# EAGLE library part WE-LAN_749024012 (library Wurth_Signal & Communications_WE-LAN)
WE-LAN LAN Transformer 1000 Base-T Characteristics Power over Ethernet up to 150 Watts and speeds up to 1 Gbit/s Available in SMD Compliant with standards: IEEE 802.3u, IEEE 802.3ab, IEEE 802.3af, IEEE 802.3at and upcoming IEEE 802.3bt Applications Suitable for industrial temperatures from –40 °C up to +125 °C Compatible to Industrial Ethernet systems like EtherCAT or Profinet Compliant with most IC’s for Ethernet applications such as Microchip, Texas Instruments, Broadcom, Linear Technology Hubs, Routers, Switches, IP cameras, IoT applications <https://katalog.we-online.com/media/images/v2/o14800v209%20WE-LAN%20-%20Kopie.jpg> Details see: https://katalog.we-online.com/en/pbs/WE-LAN Updated by Ella Wu 2019-07-17 2019 (C) Würth Elektronik
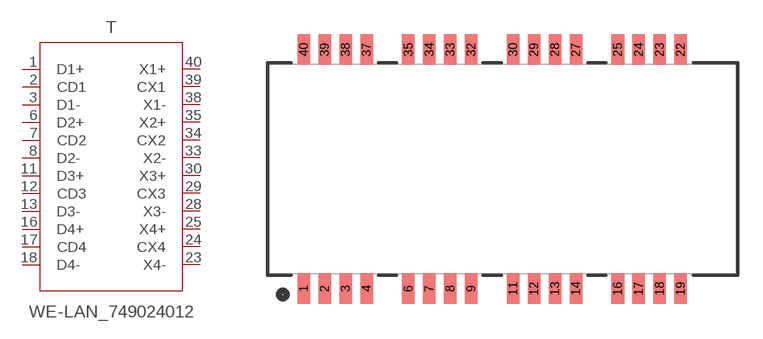
[diagram p40: symbol with the pads of WE-LAN_749024012; footprint WE-LAN_749024012]

Designator prefix T

## WE-LAN_749024012 (DATA-RATE: 1000 Base-T; DATASHEET-URL: https://www.we-online.com/catalog/datasheet/749024012.pdf; HPLE: No; L: 350uH; MOUNT: SMT; PART-NUMBER: 749024012; POE: non-PoE; PORTS: 1; VALUE: 749024012; VT: 4000 V (RMS))  [WE-LAN_749024012]
1  D1+  pas
2  CD1  pas
3  D1-  pas
6  D2+  pas
7  CD2  pas
8  D2-  pas
11  D3+  pas
12  CD3  pas
13  D3-  pas
16  D4+  pas
17  CD4  pas
18  D4-  pas
23  X4-  pas
24  CX4  pas
25  X4+  pas
28  X3-  pas
29  CX3  pas
30  X3+  pas
33  X2-  pas
34  CX2  pas
35  X2+  pas
38  X1-  pas
39  CX1  pas
40  X1+  pas

## Footprint WE-LAN_749024012 (pad centres in mm)
WE-LAN LAN Transformer 1000 Base-T
smd 0.76 x 1.86: 1 -11.43,-7.24; 2 -10.16,-7.24; 3 -8.89,-7.24; 4 -7.62,-7.24; 6 -5.08,-7.24; 7 -3.81,-7.24; 8 -2.54,-7.24; 9 -1.27,-7.24; 11 1.27,-7.24; 12 2.54,-7.24; 13 3.81,-7.24; 14 5.08,-7.24; 16 7.62,-7.24; 17 8.89,-7.24; 18 10.16,-7.24; 19 11.43,-7.24; 22 11.43,7.24; 23 10.16,7.24; 24 8.89,7.24; 25 7.62,7.24; 27 5.08,7.24; 28 3.81,7.24; 29 2.54,7.24; 30 1.27,7.24; 32 -1.27,7.24; 33 -2.54,7.24; 34 -3.81,7.24; 35 -5.08,7.24; 37 -7.62,7.24; 38 -8.89,7.24; 39 -10.16,7.24; 40 -11.43,7.24